# EAGLE library part PIC24FJ*GU405 (library BW-Active)
16-bit 32MHz microcontroller with USB, 48-pin
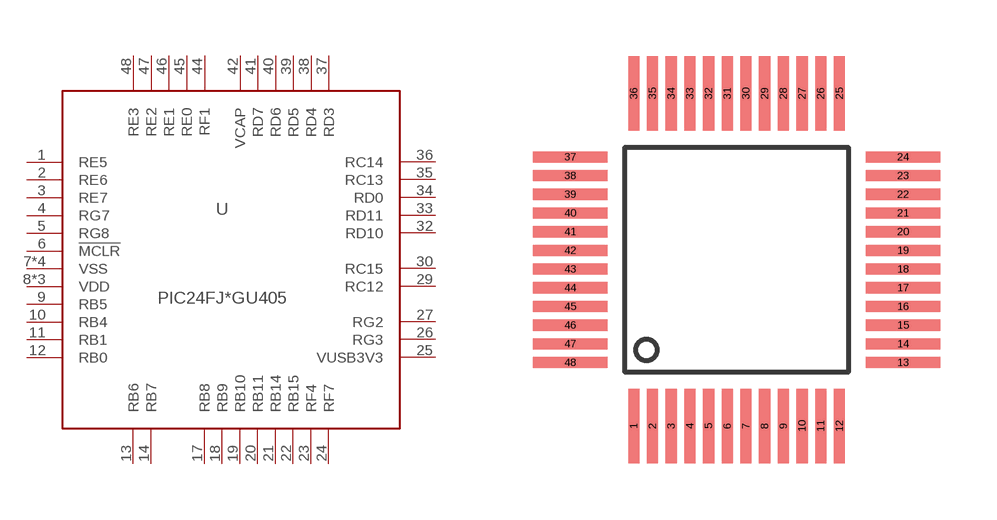
[diagram p40: symbol with the pads of TQFP48; footprint TQFP48]

Designator prefix U

## PIC24FJ*GU405  [TQFP48]
1  RE5
2  RE6
3  RE7
4  RG7
5  RG8
6  !MCLR
7  VSS
8  VDD
9  RB5
10  RB4
11  RB1
12  RB0
13  RB6
14  RB7
15  VDD
16  VSS
17  RB8
18  RB9
19  RB10
20  RB11
21  RB14
22  RB15
23  RF4
24  RF7
25  VUSB3V3
26  RG3
27  RG2
28  VDD
29  RC12
30  RC15
31  VSS
32  RD10
33  RD11
34  RD0
35  RC13
36  RC14
37  RD3
38  RD4
39  RD5
40  RD6
41  RD7
42  VCAP
43  VSS
44  RF1
45  RE0
46  RE1
47  RE2
48  RE3

## Footprint TQFP48 (pad centres in mm)
smd 0.3 x 2: 1 -2.75,-4.45; 2 -2.25,-4.45; 3 -1.75,-4.45; 4 -1.25,-4.45; 5 -0.75,-4.45; 6 -0.25,-4.45; 7 0.25,-4.45; 8 0.75,-4.45; 9 1.25,-4.45; 10 1.75,-4.45; 11 2.25,-4.45; 12 2.75,-4.45; 25 2.75,4.45; 26 2.25,4.45; 27 1.75,4.45; 28 1.25,4.45; 29 0.75,4.45; 30 0.25,4.45; 31 -0.25,4.45; 32 -0.75,4.45; 33 -1.25,4.45; 34 -1.75,4.45; 35 -2.25,4.45; 36 -2.75,4.45
smd 2 x 0.3: 13 4.45,-2.75; 14 4.45,-2.25; 15 4.45,-1.75; 16 4.45,-1.25; 17 4.45,-0.75; 18 4.45,-0.25; 19 4.45,0.25; 20 4.45,0.75; 21 4.45,1.25; 22 4.45,1.75; 23 4.45,2.25; 24 4.45,2.75; 37 -4.45,2.75; 38 -4.45,2.25; 39 -4.45,1.75; 40 -4.45,1.25; 41 -4.45,0.75; 42 -4.45,0.25; 43 -4.45,-0.25; 44 -4.45,-0.75; 45 -4.45,-1.25; 46 -4.45,-1.75; 47 -4.45,-2.25; 48 -4.45,-2.75